# Altium footprint library BasicLib.PcbLib: 20 footprints (part 2 of 2)
Each footprint in its own frame and in the unit in brackets; x right, y up, seen from the top. Pads: shape width x height; smd on the part's side, far side on the other; paste and mask are expansions set on the pad; w line width, h text height; cw(c..) or ccw(c..) is an arc to the next point about the centre after c.
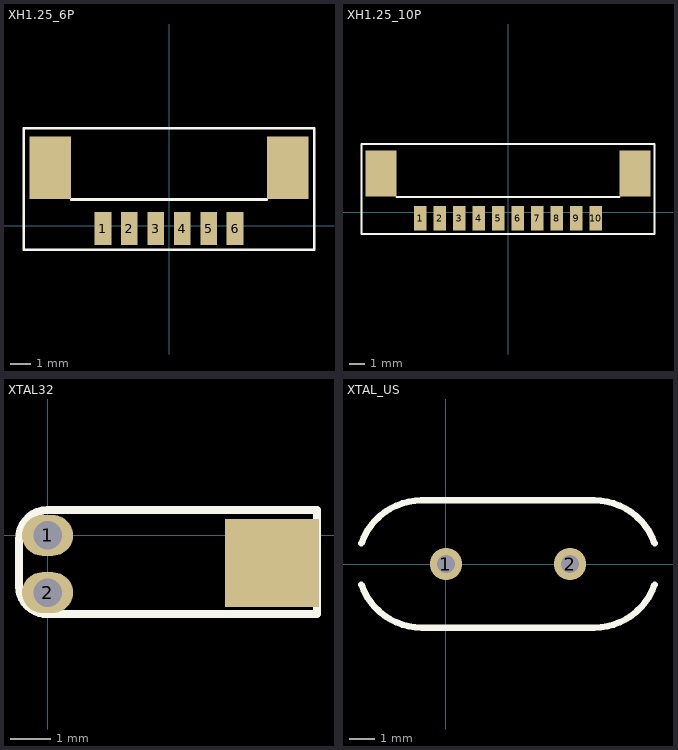
[diagram p1: the footprints below, top view; thin cyan lines are the x and y axes]

## XH1.25_6P [mm]
pads (8):
  rect 0.8x1.6 smd: 1(-3.175,-0.127) 2(-1.905,-0.127) 3(-0.635,-0.127) 4(0.635,-0.127) 5(1.905,-0.127) 6(3.175,-0.127)
  rect 2x3 smd: ""(-5.715,2.794) ""(5.715,2.794)
Top Overlay:
  lines w0.127: -4.699,1.27 4.699,1.27 ; -6.978,-1.143 6.985,-1.143 6.985,4.699 -6.978,4.699 -6.978,-1.143

## XH1.25_10P [mm]
pads (12):
  rect 0.8x1.6 smd: 1(-5.715,-0.381) 2(-4.445,-0.381) 3(-3.175,-0.381) 4(-1.905,-0.381) 5(-0.635,-0.381) 6(0.635,-0.381) 7(1.905,-0.381) 8(3.175,-0.381) 9(4.445,-0.381) 10(5.715,-0.381)
  rect 2x3 smd: ""(-8.255,2.54) ""(8.255,2.54)
Top Overlay:
  lines w0.127: -7.239,1.016 7.239,1.016 ; -9.518,-1.397 -9.518,4.445 9.525,4.445 9.525,-1.397 -9.518,-1.397

## XTAL32 [mil]
pads (3):
  oval 50x40 hole 28: 1(0,0) 2(0,-56)
  rect 92.13x86 smd: ""(220,-27)
Top Overlay:
  lines w8: -28,-50 ccw(c-0.5,-49.5) 0,-77 264,-77 264,25 0,25 ccw(c0.5,-3.5) -28,-4 -28,-50

## XTAL_US [mil]
pads (2):
  round 50 hole 28: 1(0,0) 2(192.13,0)
Top Overlay:
  lines w10: -130.92,-31.85 ccw(c-37.79,0) -37.79,-98.42 ; -130.92,31.85 cw(c-37.79,0) -37.79,98.43 ; -38,98.42 229.92,98.43 cw(c229.92,0) 323.05,31.85 ; -37.8,-98.43 229.92,-98.42 ccw(c229.92,0) 323.05,-31.85